# Altium schematic symbol library USB3076-30-A.Schlib: 1 symbol
Pins are listed as number, name and electrical type; pins without a type are passive.

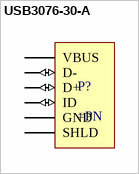
[diagram p0: symbol USB3076-30-A]

## USB3076-30-A
designator P?
USB - micro B USB 2.0 Surface Mount Right Angle
pins: 1 VBUS (power), 2 D- (io), 3 D+ (io), 4 ID (io), 5 GND (power), 6 SHLD (power)